# Altium integrated library FT232RL-REEL.IntLib: 2 symbols
Pins are listed as number, name and electrical type; pins without a type are passive.

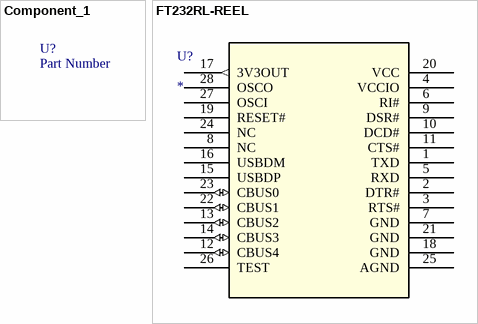
[diagram p0: symbols Component_1 to FT232RL-REEL]

## Component_1
designator U?, comment Part Number
XXX - Description - Package; GRAMS Lib Spec: 2.7

## FT232RL-REEL
designator U?
No Description Available; Mfr_Name: FTDI, Future Technology Devices International Ltd; RefDes: RefDes; Type: Type
footprint IC28_SSOP-28_FTD
pins: 1 TXD, 2 DTR#, 3 RTS#, 4 VCCIO (power), 5 RXD, 6 RI#, 7 GND (power), 8 NC, 9 DSR#, 10 DCD#, 11 CTS#, 12 CBUS4 (io), 13 CBUS2 (io), 14 CBUS3 (io), 15 USBDP, 16 USBDM, 17 3V3OUT (out), 18 GND (power), 19 RESET#, 20 VCC (power), 21 GND (power), 22 CBUS1 (io), 23 CBUS0 (io), 24 NC, 25 AGND (power), 26 TEST, 27 OSCI, 28 OSCO